# Altium footprint library SparkFun-Connectors.PCBLIB: 376 footprints (part 3 of 24)
Each footprint in its own frame and in the unit in brackets; x right, y up, seen from the top. Pads: shape width x height; smd on the part's side, far side on the other; paste and mask are expansions set on the pad; w line width, h text height; cw(c..) or ccw(c..) is an arc to the next point about the centre after c.
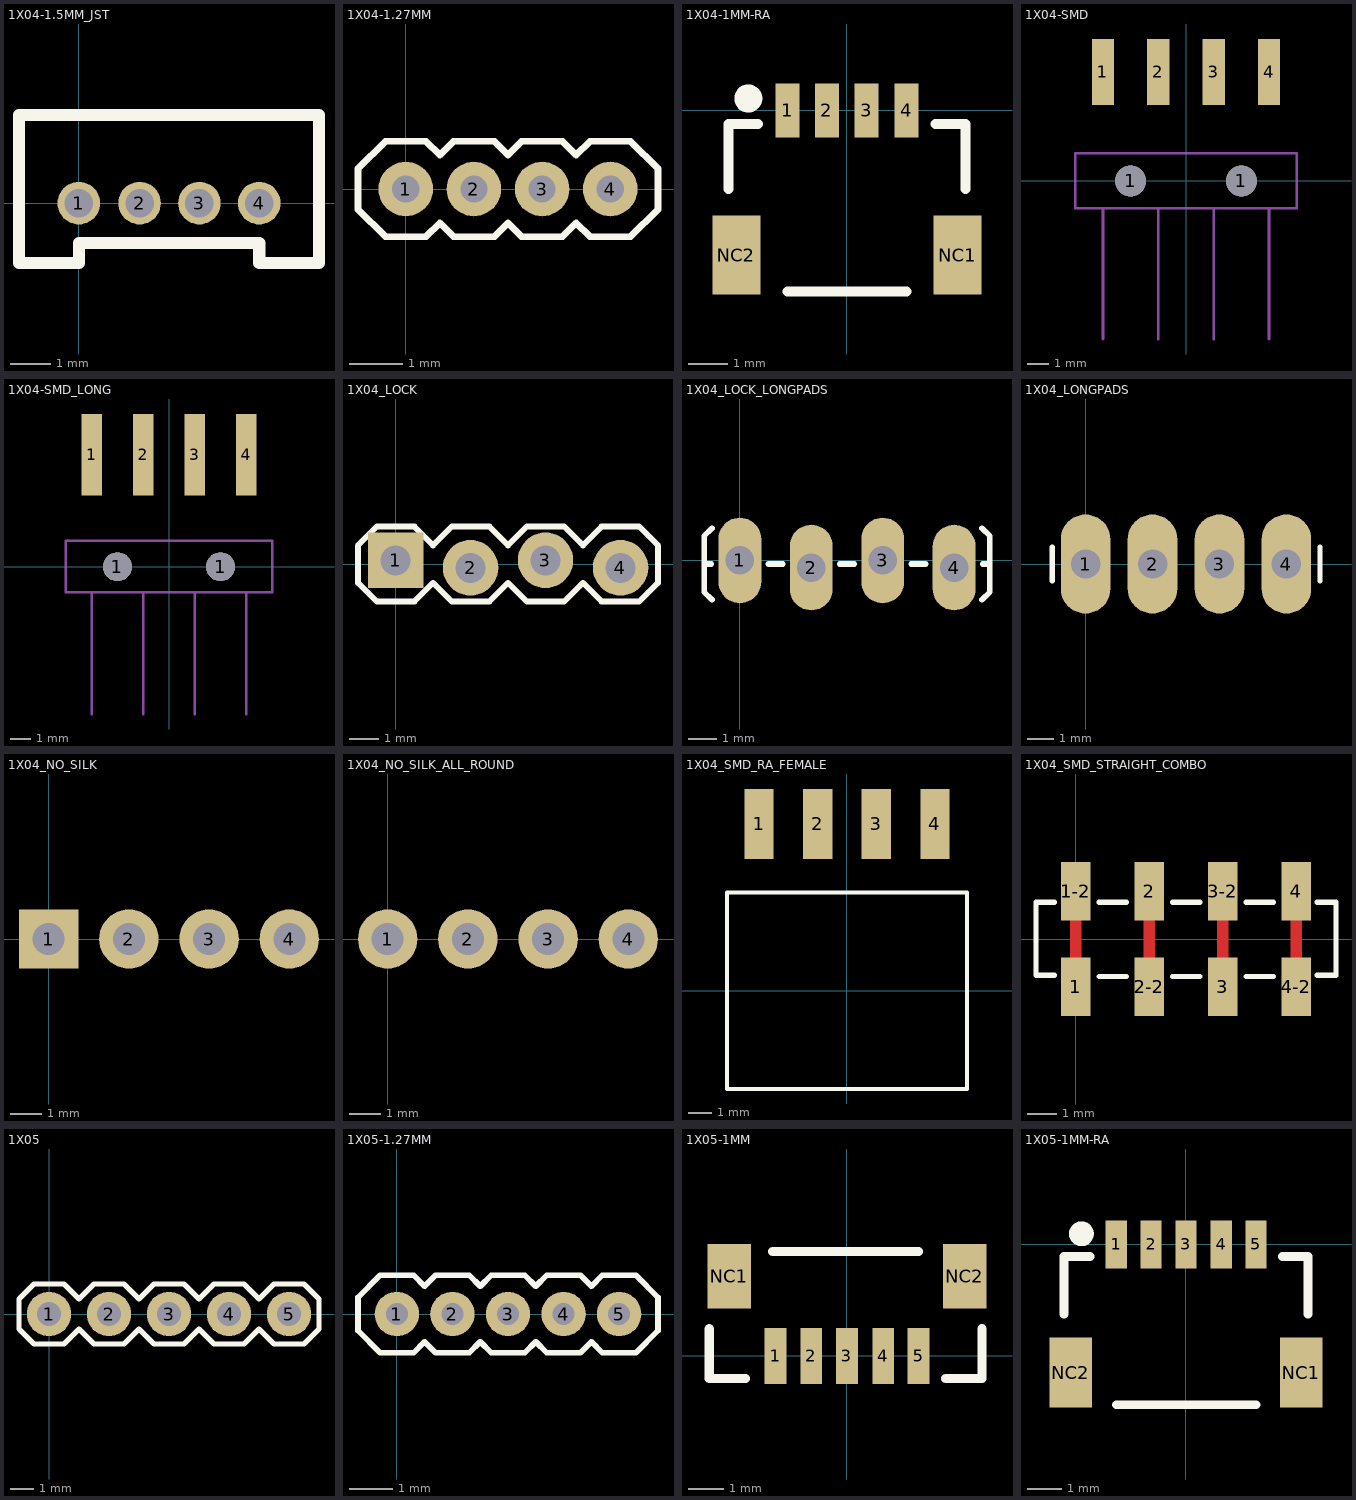
[diagram p2: the footprints below, top view; thin cyan lines are the x and y axes]

## 1X04-1.5MM_JST [mil]
pads (4):
  round 42 hole 28: 1(0,0) 2(60,0) 3(119,0) 4(178,0)
Top Overlay:
  lines w12: -59.06,-59.06 0,-59.06 0,-39.37 178,-39.37 178,-59.06 237,-59.06 237,87 -59.06,87 -59.06,-59.06
Mechanical 2:
  text ">NAME" at -20,50 h24.8
Mechanical 4:
  text ">VALUE" at -20,-65 h24.8

## 1X04-1.27MM [mil]
pads (4):
  round 40 hole 20: 1(0,0) 2(50,0) 3(100,0) 4(150,0)
Top Overlay:
  lines w5: -35,-15 -15,-35 15,-35 25,-25 35,-35 65,-35 75,-25 85,-35 115,-35 125,-25 135,-35 165,-35 185,-15 185,15 165,35 135,35 125,25 115,35 85,35 75,25 65,35 35,35 25,25 15,35 -15,35 -35,15 -35,-15
Mechanical 2:
  text ">NAME" at -20,50 h24.8
Mechanical 4:
  text ">VALUE" at -20,-65 h24.8

## 1X04-1MM-RA [mil]
pads (6):
  rect 24x54 smd: 1(-59.06,0) 2(-19.68,0) 3(20,0) 4(60,0)
  rect 48x79 smd: NC1(111,-144.69) NC2(-110.24,-144.69)
Top Overlay:
  circle w16: c-98.43,12 r6
  lines w10: -118.11,-78.74 -118.11,-13.78 -88.58,-13.78 ; -59.06,-181.1 60,-181.1 ; 89,-13.78 119,-13.78 119,-78.74
Mechanical 2:
  text ">NAME" at -68.11,69 h24.8
Mechanical 4:
  text ">VALUE" at 137,69 h24.8

## 1X04-SMD [mil]
pads (6):
  rect 40x119 smd: 1(-150,197) 2(-50,197) 3(50,197) 4(150,197)
  round 56 hole 56: 1(-100,0) 1(100,0)
Mechanical 16:
  lines w5: -150,-285.43 -150,-49.21 ; -50,-285.43 -50,-49.21 ; 50,-285.43 50,-49.21 ; 150,-285.43 150,-49.21 ; -150,-49.21 -200,-49.21 -200,50 200,50 200,-49.21 150,-49.21 ; -150,-49.21 -50,-49.21 ; -50,-49.21 50,-49.21 ; 50,-49.21 150,-49.21

## 1X04-SMD_LONG [mil]
pads (6):
  rect 40x158 smd: 1(-150,217) 2(-50,217) 3(50,217) 4(150,217)
  round 56 hole 56: 1(-100,0) 1(100,0)
Mechanical 16:
  lines w5: -150,-285.43 -150,-49.21 ; -50,-285.43 -50,-49.21 ; 50,-285.43 50,-49.21 ; 150,-285.43 150,-49.21 ; -150,-49.21 -200,-49.21 -200,50 200,50 200,-49.21 150,-49.21 ; -150,-49.21 -50,-49.21 ; -50,-49.21 50,-49.21 ; 50,-49.21 150,-49.21

## 1X04_LOCK [mil]
pads (4):
  rect 74x74 hole 40: 1(0,5)
  round 74 hole 40: 2(100,-5) 3(200,5) 4(300,-5)
Top Overlay:
  lines w8: -50,-25 -50,25 -25,50 25,50 50,25 75,50 125,50 150,25 175,50 225,50 250,25 275,50 325,50 350,25 350,-25 325,-50 275,-50 250,-25 225,-50 175,-50 150,-25 125,-50 75,-50 50,-25 25,-50 -25,-50 -50,-25
Mechanical 2:
  text ">NAME" at -53,72 h77.5
Mechanical 4:
  text ">VALUE" at -50,-125 h77.5
Mechanical 16:
  rectangle: 290,-10 310,10
  rectangle: 190,-10 210,10
  rectangle: 90,-10 110,10
  rectangle: -10,-10 10,10

## 1X04_LOCK_LONGPADS [mil]
pads (4):
  oval 60x120 hole 40: 1(0,0) 2(100,-10) 3(200,0) 4(300,-10)
Top Overlay:
  lines w8: -40,-5 -50,-5 ; -39,-55 -50,-44 -50,-5 ; -39,45 -50,34 -50,-5 ; 40,-5 60,-5 ; 140,-5 160,-5 ; 240,-5 260,-5 ; 339,-55 350,-44 350,-5 ; 339,45 350,34 350,-5 ; 340,-5 350,-5
Mechanical 2:
  text ">NAME" at -50,70 h42.5
Mechanical 4:
  text ">VALUE" at -50,-130 h42.5
Mechanical 16:
  rectangle: -11.5,-16.5 12,7
  rectangle: 89,-16.5 112,7
  rectangle: 189,-16.5 212,7
  region: 312.25,-16.25 312.25,6.75 288.75,6.75 288.75,-16.25

## 1X04_LONGPADS [mil]
pads (4):
  oval 74x148 hole 44: 1(0,0) 2(100,0) 3(200,0) 4(300,0)
Top Overlay:
  lines w8: -50,-25 -50,25 ; 350,-25 350,25
Mechanical 2:
  text ">NAME" at -53,97 h77.5
Mechanical 4:
  text ">VALUE" at -50,-150 h77.5
Mechanical 16:
  rectangle: 290,-10 310,10
  rectangle: 190,-10 210,10
  rectangle: 90,-10 110,10
  rectangle: -10,-10 10,10

## 1X04_NO_SILK [mil]
pads (4):
  rect 74x74 hole 40: 1(0,0)
  round 74 hole 40: 2(100,0) 3(200,0) 4(300,0)
Mechanical 2:
  text ">NAME" at -53,72 h77.5
Mechanical 4:
  text ">VALUE" at -50,-125 h77.5
Mechanical 16:
  rectangle: 290,-10 310,10
  rectangle: 190,-10 210,10
  rectangle: 90,-10 110,10
  rectangle: -10,-10 10,10

## 1X04_NO_SILK_ALL_ROUND [mil]
pads (4):
  round 74 hole 40: 1(0,0) 2(100,0) 3(200,0) 4(300,0)
Mechanical 2:
  text ">NAME" at -53,72 h77.5
Mechanical 4:
  text ">VALUE" at -50,-125 h77.5
Mechanical 16:
  rectangle: 290,-10 310,10
  rectangle: 190,-10 210,10
  rectangle: 90,-10 110,10
  rectangle: -10,-10 10,10

## 1X04_SMD_RA_FEMALE [mil]
pads (4):
  rect 50x119 smd: 1(-150,285) 2(-50,285) 3(50,285) 4(150,285)
Top Overlay:
  lines w7: -204.92,-167.32 -204.92,168 205,168 205,-167.32 -204.92,-167.32
Mechanical 2:
  text ">Name" at -166.34,-133.66 h62
Mechanical 4:
  text ">Value" at -174.21,110 h62
Mechanical 16:
  rectangle: -62.6,268 -37.4,302
  rectangle: 38,268 63,302
  rectangle: -162.6,268 -137.4,302
  rectangle: 138,268 163,302

## 1X04_SMD_STRAIGHT_COMBO [mil]
pads (8):
  rect 40x79 smd: 1(0,-64.96) 1-2(0,65) 2(100,65) 2-2(100,-64.96) 3(200,-64.96) 3-2(200,65) 4(300,65) 4-2(300,-64.96)
Top Layer:
  lines w16: 0,-50 0,50 ; 100,-50 100,50 ; 200,-50 200,50 ; 300,-50 300,50
Top Overlay:
  lines w7: -28.74,-49.21 -53.94,-49.21 -53.94,50 -28.74,50 ; 32,-50.79 69,-50.79 ; 32,50 69,50 ; 132,-50.79 169,-50.79 ; 132,50 169,50 ; 232,-50.79 269,-50.79 ; 232,50 269,50 ; 328,-49.21 354,-49.21 354,50 328,50
Mechanical 2:
  text ">NAME" at 0,115 h77.5
Mechanical 4:
  text ">VALUE" at 0,-165 h77.5

## 1X05 [mil]
pads (5):
  round 74 hole 40: 1(0,0) 2(100,0) 3(200,0) 4(300,0) 5(400,0)
Top Overlay:
  lines w8: -50,-25 -50,25 -25,50 25,50 50,25 75,50 125,50 150,25 175,50 225,50 250,25 275,50 325,50 350,25 375,50 425,50 450,25 450,-25 425,-50 375,-50 350,-25 325,-50 275,-50 250,-25 225,-50 175,-50 150,-25 125,-50 75,-50 50,-25 25,-50 -25,-50 -50,-25
Mechanical 2:
  text ">NAME" at -53,72 h77.5
Mechanical 4:
  text ">VALUE" at -50,-125 h77.5
Mechanical 16:
  rectangle: 390,-10 410,10
  rectangle: 290,-10 310,10
  rectangle: 190,-10 210,10
  rectangle: 90,-10 110,10
  rectangle: -10,-10 10,10

## 1X05-1.27MM [mil]
pads (5):
  round 40 hole 20: 1(0,0) 2(50,0) 3(100,0) 4(150,0) 5(200,0)
Top Overlay:
  lines w5: -35,-15 -15,-35 15,-35 25,-25 35,-35 65,-35 75,-25 85,-35 115,-35 125,-25 135,-35 165,-35 175,-25 185,-35 215,-35 235,-15 235,15 215,35 185,35 175,25 165,35 135,35 125,25 115,35 85,35 75,25 65,35 35,35 25,25 15,35 -15,35 -35,15 -35,-15
Mechanical 2:
  text ">NAME" at -20,50 h24.8
Mechanical 4:
  text ">VALUE" at -20,-65 h24.8

## 1X05-1MM [mil]
pads (7):
  rect 24x62 smd: 1(-78.74,0) 2(-39.37,0) 3(0,0) 4(40,0) 5(79,0)
  rect 48x71 smd: NC1(-129.92,88) NC2(130,88)
Top Overlay:
  lines w10: -151.89,30 -151.89,-25 -111.89,-25 ; -81.89,115 79,115 ; 109,-25 149,-25 149,30
Mechanical 2:
  text ">NAME" at 69,-68.11 h24.8
Mechanical 4:
  text ">VALUE" at -136.22,-68.11 h24.8

## 1X05-1MM-RA [mil]
pads (7):
  rect 24x54 smd: 1(-78.74,0) 2(-39.37,0) 3(0,0) 4(40,0) 5(79,0)
  rect 48x79 smd: NC1(130,-144.69) NC2(-129.92,-144.69)
Top Overlay:
  circle w16: c-118.11,12 r6
  lines w10: -137.8,-78.74 -137.8,-13.78 -108.27,-13.78 ; -78.74,-181.1 79,-181.1 ; 109,-13.78 138,-13.78 138,-78.74
Mechanical 2:
  text ">NAME" at -128.74,50 h24.8
Mechanical 4:
  text ">VALUE" at 61,50 h24.8